# Altium schematic symbol library Inductors.SchLib: 6 symbols
Pins are listed as number, name and electrical type; pins without a type are passive.

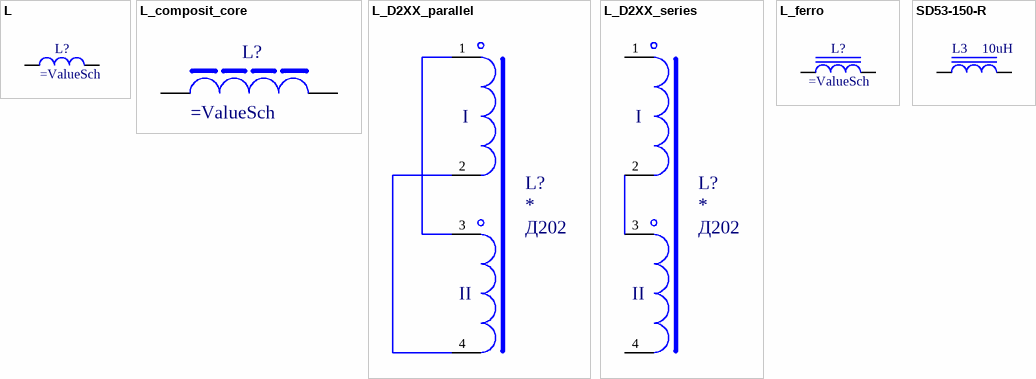
[diagram p0: symbols L to SD53-150-R]

## L
designator L?
Дроссель без сердечника
pins: 1, 2

## L_composit_core
designator L?
Дроссель с магнитодиэлектрическим сердечником
pins: 1, 2

## L_D2XX_parallel
designator L?  TypeName: Д202
Дроссель унифицированный параллельно включенные обмотки; ValueSch: *
pins: 1, 2, 3, 4
text: I; II

## L_D2XX_series
designator L?  TypeName: Д202
Дроссель унифицированный последовательно включенные обмотки; ValueSch: *
pins: 1, 2, 3, 4
text: I; II

## L_ferro
designator L?
Дроссель с ферромагнитным сердечником
pins: 1, 2

## SD53-150-R
designator L3  value 10uH  (hidden comment: SD53-150-R)
Inductor; PartNumber: SD53-100-R
footprint SD53-150-R
pins: 1, 2